# Altium integrated library Linear Technology PMIC-Switching Reg LTC1174-LTC3901.IntLib: 2647 symbols (part 72 of 310)
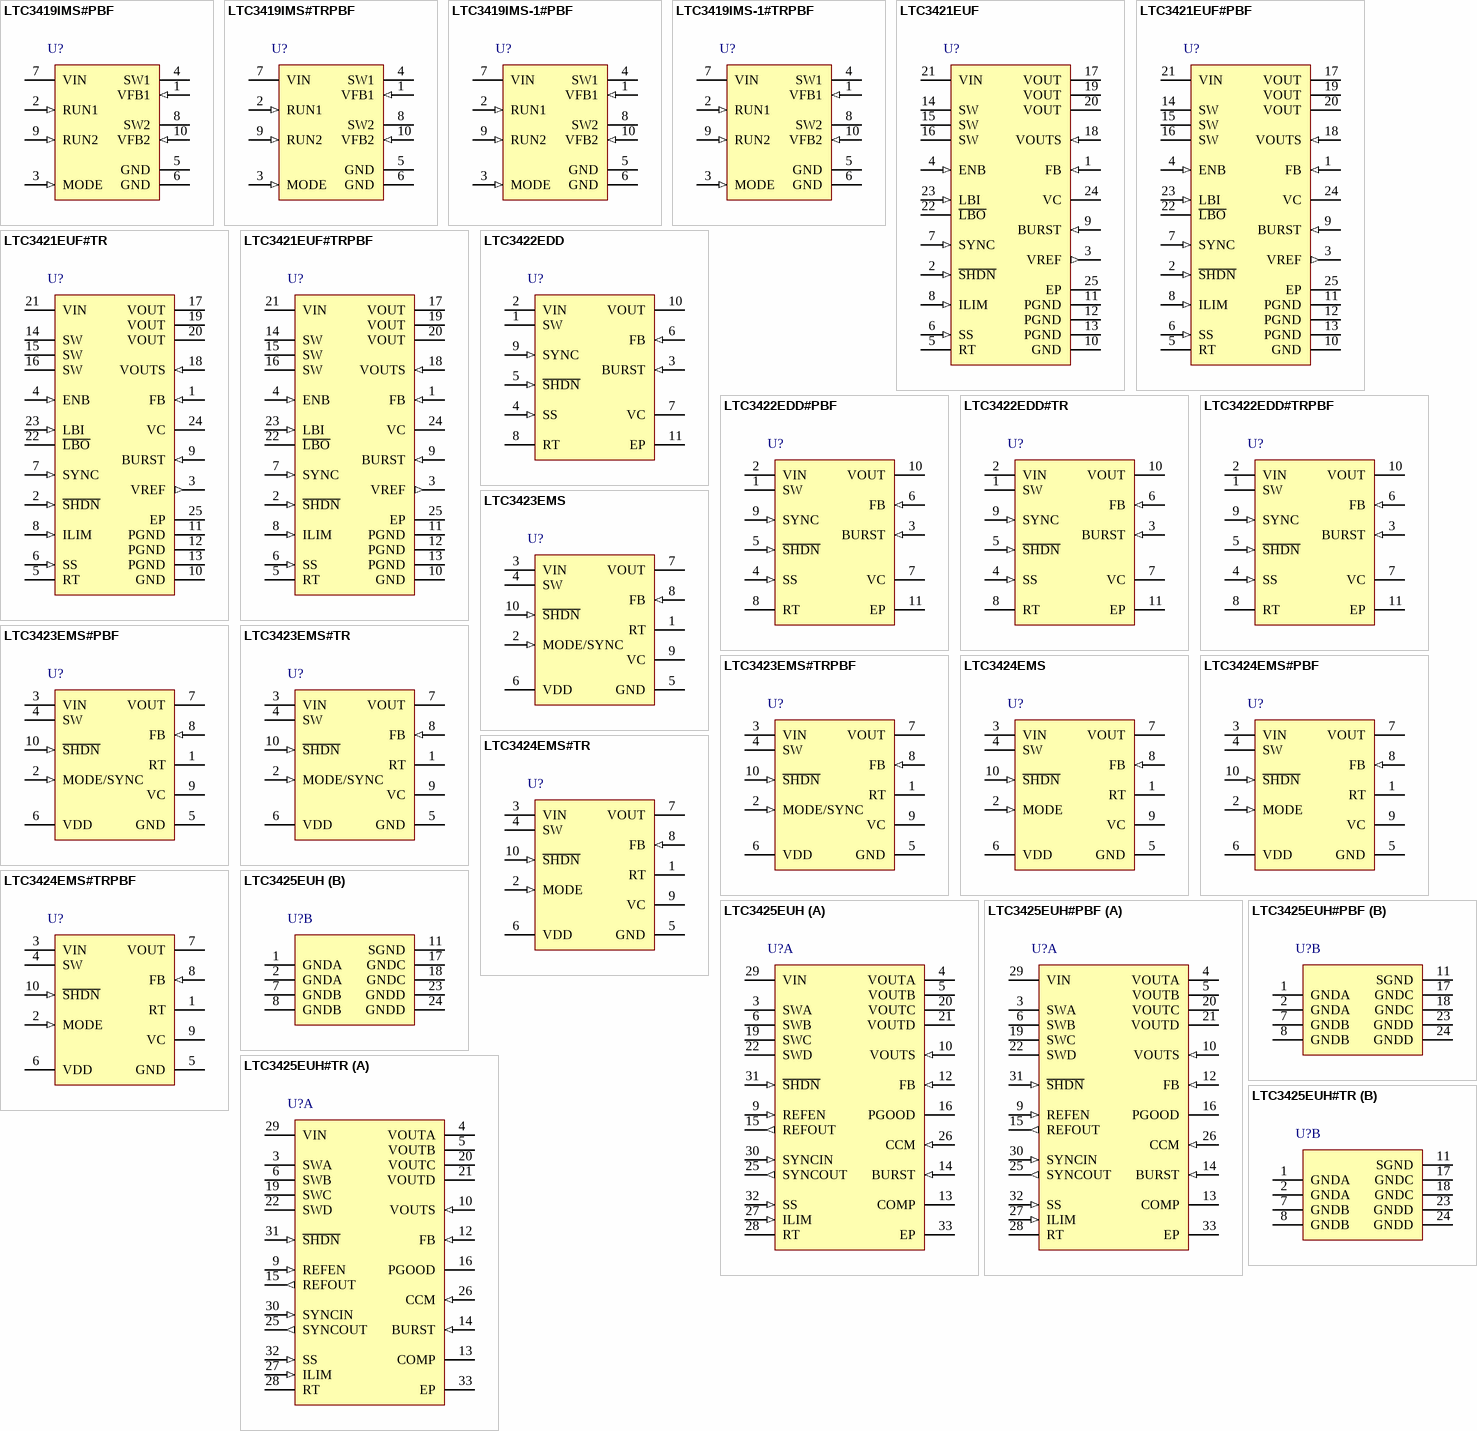
[diagram p157: symbols LTC3419IMS#PBF to LTC3425EUH#TR]

## LTC3421EUF#TRPBF
designator U?
3A, 3MHz Micropower Synchronous Boost Converter with Output Disconnect, 24-pin QFN (UF-24), -40 to 85 degC, Pb-Free, Tape and Reel; Manufacturer: Linear Technology; PartNumber: LTC3421EUF#TRPBF; Number of Outputs: 1; PackageReference: UF24; PackageDescription: 24-Pin Plastic QFN, Body 4 x 4 mm, Pitch 0.5 mm; Supplier 1: Digi-Key; Supplier Part Number 1: LTC3421EUF#TRPBF-ND; RoHS: TRUE; Code_JEDEC: MO-220
footprint LT-UF-24_N (QFN, 24-Leads, Body 4.1x4.1mm, Pitch 0.5mm, Thermal Pad 2.45x2.45mm, IPC Medium Density)
footprint LT-UF-24_L (QFN, 24-Leads, Body 4.1x4.1mm, Pitch 0.5mm, Thermal Pad 2.45x2.45mm, IPC High Density)
footprint LT-UF-24_M (QFN, 24-Leads, Body 4.1x4.1mm, Pitch 0.5mm, Thermal Pad 2.45x2.45mm, IPC Low Density)
pins: 1 FB (in) "Feedback Pin. Connect resistor divider tap here. The output voltage can be adjusted from 2.4V to 5.25V. The feedback reference voltage is typically 1.220V.", 2 ~{SHDN} (in) "Shutdown Pin. Less than 0.25V on this pin shuts down the IC. The IC is enabled when the S\H\D\N\ voltage is greater than 1V. Once VOUT is above 2.2V, hysteresis is applied to the pin (-500nA out of the pin) allowing it to (See Datasheet)", 3 VREF (out) "Buffered 1.22V Reference Output. This pin can source up to 100uA and sink up to 8uA. This pin must be decoupled with a 0.1uF capacitor for stability.", 4 ENB (in) "Reference Output (VREF) and Low-Battery Comparator Enable. When ENB = Low, the VREF output and low-battery comparator are disabled, which lowers the quiescent current by 5uA. When ENB = High, the VREF output and the (See Datasheet)", 5 RT "Connect a resistor to ground to program the oscillator frequency", 6 SS (in) "Soft-Start Pin. Connect a capacitor from this pin to ground to set the soft-start time", 7 SYNC (in) "Oscillator Synchronization Pin. A clock pulse width of 100ns to 2us is required to synchronize the internal oscillator. If not used SYNC should be grounded.", 8 ILIM (in) "Current Limit Adjust Pin. Connect a resistor from this pin to ground to set the peak current limit threshold for the N-channel MOSFET", 9 BURST (in) "Burst Mode Threshold Adjust Pin. A resistor/capacitor combination from this pin to ground programs the average load current at which automatic Burst Mode operation is entered", 10 GND (power) "Signal Ground Pin. Connect to ground plane near the RT resistor, error amp compensation components and feedback divider.", 11 PGND (power) "Source Terminal of Power Internal N-Channel MOSFET.", 12 PGND (power) "Source Terminal of Power Internal N-Channel MOSFET.", 13 PGND (power) "Source Terminal of Power Internal N-Channel MOSFET.", 14 SW "Switch Pin for Inductor Connection. For applications where VOUT > 4.3V, a Schottky diode from SW to VOUT or to a snubber circuit is required to maintain absolute maximum rating for SW. (see Application Circuits for 5V).", 15 SW "Switch Pin for Inductor Connection. For applications where VOUT > 4.3V, a Schottky diode from SW to VOUT or to a snubber circuit is required to maintain absolute maximum rating for SW. (see Application Circuits for 5V).", 16 SW "Switch Pin for Inductor Connection. For applications where VOUT > 4.3V, a Schottky diode from SW to VOUT or to a snubber circuit is required to maintain absolute maximum rating for SW. (see Application Circuits for 5V).", 17 VOUT (power) "The output of the synchronous rectifier and bootstrapped power source for the IC. A ceramic bypass capacitor is required to be very close to the VOUT and PGND pins of the IC.", 18 VOUTS (in) "VOUT Sense Pin. Connect VOUTS directly to an output filter capacitor. The top of the feedback divider network should also be tied to this point.", 19 VOUT (power) "The output of the synchronous rectifier and bootstrapped power source for the IC. A ceramic bypass capacitor is required to be very close to the VOUT and PGND pins of the IC.", 20 VOUT (power) "The output of the synchronous rectifier and bootstrapped power source for the IC. A ceramic bypass capacitor is required to be very close to the VOUT and PGND pins of the IC.", 21 VIN (power) "Input Supply Pin. Connect this pin to the input supply and decouple with at least a 4.7uF ceramic capacitor.", 22 ~{LBO} (oc) "Open-Drain Output. This pin pulls low when the LBI input is below 0.6V. The open-drain output can sink up to 20mA. During Burst Mode operation L\B\O\ is only active during the time the IC wakes up to service the output.", 23 LBI (in) "Low-Battery Comparator Input. Typical threshold voltage is 0.6V with 30mV hysteresis. This function is enabled when the ENB pin is high. The lowbattery comparator will operate off VIN or VOUT, whichever is greater.", 24 VC "Error Amp Output. A frequency compensation network is connected from this pin to ground to compensate the loop. See the section Compensating the Feedback Loop for guidelines.", 25 EP (power) "Ground. This pin must be soldered to the PCB and is typically connected through the power GND plane."

## LTC3422EDD
designator U?
1.5 A, 3 MHz Synchronous Step-Up DC/DC Converter with Output Disconnect, 10-pin SON (DD-10), -40 to 85 degC; Manufacturer: Linear Technology; PartNumber: LTC3422EDD; Number of Outputs: 1; PackageReference: DD-10; PackageDescription: 10-Pin Plastic DFN, Body 3 x 3 mm, Pitch 0.5 mm; RoHS: FALSE; Code_JEDEC: MO-229
footprint LT-DD-10_V (SON, 10-Leads, Body 3x3mm, Pitch 0.5mm, Thermal Pad 2.38x1.65mm)
pins: 1 SW "Switch Pin for the Inductor Connection. Minimize trace length between SW and inductor. For discontinuous inductor current, a controlled impedance is internally connected from SW to VIN to eliminate high frequency ringing, (See Datasheet)", 2 VIN (power) "Input Supply Voltage. Connect VIN to the input supply and decouple with a 4.7uF or larger ceramic capacitor as close to VIN as possible.", 3 BURST (in) "Burst Mode Threshold Adjust. Automatic Burst Mode Operation: A resistor/capacitor combination from BURST to ground programs the average load current at which automatic Burst Mode operation is exited", 4 SS (in) "Soft-Start. Connect a capacitor from SS to ground to set the soft-start time", 5 ~{SHDN} (in) "Shutdown Input. Less than 250mV on S\H\D\N\ shuts down the LTC3422. Placing 1V or more on S\H\D\N\ enables the LTC3422. Once VOUT exceeds 2.2V, hysteresis is applied to this pin (500nA exits the pin) allowing it to operate (See Datasheet)", 6 FB (in) "Feedback Input to Error Amplifier. Connect the VOUT to ground resistor divider tap here. The output voltage can be adjusted from 2.25V to 5.25V", 7 VC "Error Amp Output. A frequency compensation network is connected from VC to ground to compensate the loop. See the section “Closing the Feedback Loop?for guidelines.", 8 RT "Frequency Adjust Input. Connect a resistor to ground to program the oscillator frequency", 9 SYNC (in) "Oscillator Synchronization Input. A clock pulse width of 100ns to 2us is required to synchronize the internal oscillator. If not used, SYNC should be grounded.", 10 VOUT (power) "Output of the synchronous rectifier and bootstrapped power source for the LTC3422. A ceramic capacitor of at least 10uF is required and should be located as close to VOUT and the power ground plane as possible.", 11 EP (power) "Signal and Power Ground for the LTC3422. This pin MUST be soldered to the PCB ground plane for electrical contact and rated thermal performance."

## LTC3422EDD#PBF
designator U?
1.5 A, 3 MHz Synchronous Step-Up DC/DC Converter with Output Disconnect, 10-pin SON (DD-10), -40 to 85 degC, Pb-Free; Manufacturer: Linear Technology; PartNumber: LTC3422EDD#PBF; Number of Outputs: 1; PackageReference: DD-10; PackageDescription: 10-Pin Plastic DFN, Body 3 x 3 mm, Pitch 0.5 mm; Supplier 1: Digi-Key; Supplier Part Number 1: LTC3422EDD#PBF-ND; RoHS: TRUE; Code_JEDEC: MO-229
footprint LT-DD-10_V (SON, 10-Leads, Body 3x3mm, Pitch 0.5mm, Thermal Pad 2.38x1.65mm)
pins: 1 SW "Switch Pin for the Inductor Connection. Minimize trace length between SW and inductor. For discontinuous inductor current, a controlled impedance is internally connected from SW to VIN to eliminate high frequency ringing, (See Datasheet)", 2 VIN (power) "Input Supply Voltage. Connect VIN to the input supply and decouple with a 4.7uF or larger ceramic capacitor as close to VIN as possible.", 3 BURST (in) "Burst Mode Threshold Adjust. Automatic Burst Mode Operation: A resistor/capacitor combination from BURST to ground programs the average load current at which automatic Burst Mode operation is exited", 4 SS (in) "Soft-Start. Connect a capacitor from SS to ground to set the soft-start time", 5 ~{SHDN} (in) "Shutdown Input. Less than 250mV on S\H\D\N\ shuts down the LTC3422. Placing 1V or more on S\H\D\N\ enables the LTC3422. Once VOUT exceeds 2.2V, hysteresis is applied to this pin (500nA exits the pin) allowing it to operate (See Datasheet)", 6 FB (in) "Feedback Input to Error Amplifier. Connect the VOUT to ground resistor divider tap here. The output voltage can be adjusted from 2.25V to 5.25V", 7 VC "Error Amp Output. A frequency compensation network is connected from VC to ground to compensate the loop. See the section “Closing the Feedback Loop?for guidelines.", 8 RT "Frequency Adjust Input. Connect a resistor to ground to program the oscillator frequency", 9 SYNC (in) "Oscillator Synchronization Input. A clock pulse width of 100ns to 2us is required to synchronize the internal oscillator. If not used, SYNC should be grounded.", 10 VOUT (power) "Output of the synchronous rectifier and bootstrapped power source for the LTC3422. A ceramic capacitor of at least 10uF is required and should be located as close to VOUT and the power ground plane as possible.", 11 EP (power) "Signal and Power Ground for the LTC3422. This pin MUST be soldered to the PCB ground plane for electrical contact and rated thermal performance."

## LTC3422EDD#TR
designator U?
1.5 A, 3 MHz Synchronous Step-Up DC/DC Converter with Output Disconnect, 10-pin SON (DD-10), -40 to 85 degC, Tape and Reel; Manufacturer: Linear Technology; PartNumber: LTC3422EDD#TR; Number of Outputs: 1; PackageReference: DD-10; PackageDescription: 10-Pin Plastic DFN, Body 3 x 3 mm, Pitch 0.5 mm; RoHS: FALSE; Code_JEDEC: MO-229
footprint LT-DD-10_V (SON, 10-Leads, Body 3x3mm, Pitch 0.5mm, Thermal Pad 2.38x1.65mm)
pins: 1 SW "Switch Pin for the Inductor Connection. Minimize trace length between SW and inductor. For discontinuous inductor current, a controlled impedance is internally connected from SW to VIN to eliminate high frequency ringing, (See Datasheet)", 2 VIN (power) "Input Supply Voltage. Connect VIN to the input supply and decouple with a 4.7uF or larger ceramic capacitor as close to VIN as possible.", 3 BURST (in) "Burst Mode Threshold Adjust. Automatic Burst Mode Operation: A resistor/capacitor combination from BURST to ground programs the average load current at which automatic Burst Mode operation is exited", 4 SS (in) "Soft-Start. Connect a capacitor from SS to ground to set the soft-start time", 5 ~{SHDN} (in) "Shutdown Input. Less than 250mV on S\H\D\N\ shuts down the LTC3422. Placing 1V or more on S\H\D\N\ enables the LTC3422. Once VOUT exceeds 2.2V, hysteresis is applied to this pin (500nA exits the pin) allowing it to operate (See Datasheet)", 6 FB (in) "Feedback Input to Error Amplifier. Connect the VOUT to ground resistor divider tap here. The output voltage can be adjusted from 2.25V to 5.25V", 7 VC "Error Amp Output. A frequency compensation network is connected from VC to ground to compensate the loop. See the section “Closing the Feedback Loop?for guidelines.", 8 RT "Frequency Adjust Input. Connect a resistor to ground to program the oscillator frequency", 9 SYNC (in) "Oscillator Synchronization Input. A clock pulse width of 100ns to 2us is required to synchronize the internal oscillator. If not used, SYNC should be grounded.", 10 VOUT (power) "Output of the synchronous rectifier and bootstrapped power source for the LTC3422. A ceramic capacitor of at least 10uF is required and should be located as close to VOUT and the power ground plane as possible.", 11 EP (power) "Signal and Power Ground for the LTC3422. This pin MUST be soldered to the PCB ground plane for electrical contact and rated thermal performance."

## LTC3422EDD#TRPBF
designator U?
1.5 A, 3 MHz Synchronous Step-Up DC/DC Converter with Output Disconnect, 10-pin SON (DD-10), -40 to 85 degC, Pb-Free, Tape and Reel; Manufacturer: Linear Technology; PartNumber: LTC3422EDD#TRPBF; Number of Outputs: 1; PackageReference: DD-10; PackageDescription: 10-Pin Plastic DFN, Body 3 x 3 mm, Pitch 0.5 mm; Supplier 1: Digi-Key; Supplier Part Number 1: LTC3422EDD#TRPBF-ND; RoHS: TRUE; Code_JEDEC: MO-229
footprint LT-DD-10_V (SON, 10-Leads, Body 3x3mm, Pitch 0.5mm, Thermal Pad 2.38x1.65mm)
pins: 1 SW "Switch Pin for the Inductor Connection. Minimize trace length between SW and inductor. For discontinuous inductor current, a controlled impedance is internally connected from SW to VIN to eliminate high frequency ringing, (See Datasheet)", 2 VIN (power) "Input Supply Voltage. Connect VIN to the input supply and decouple with a 4.7uF or larger ceramic capacitor as close to VIN as possible.", 3 BURST (in) "Burst Mode Threshold Adjust. Automatic Burst Mode Operation: A resistor/capacitor combination from BURST to ground programs the average load current at which automatic Burst Mode operation is exited", 4 SS (in) "Soft-Start. Connect a capacitor from SS to ground to set the soft-start time", 5 ~{SHDN} (in) "Shutdown Input. Less than 250mV on S\H\D\N\ shuts down the LTC3422. Placing 1V or more on S\H\D\N\ enables the LTC3422. Once VOUT exceeds 2.2V, hysteresis is applied to this pin (500nA exits the pin) allowing it to operate (See Datasheet)", 6 FB (in) "Feedback Input to Error Amplifier. Connect the VOUT to ground resistor divider tap here. The output voltage can be adjusted from 2.25V to 5.25V", 7 VC "Error Amp Output. A frequency compensation network is connected from VC to ground to compensate the loop. See the section “Closing the Feedback Loop?for guidelines.", 8 RT "Frequency Adjust Input. Connect a resistor to ground to program the oscillator frequency", 9 SYNC (in) "Oscillator Synchronization Input. A clock pulse width of 100ns to 2us is required to synchronize the internal oscillator. If not used, SYNC should be grounded.", 10 VOUT (power) "Output of the synchronous rectifier and bootstrapped power source for the LTC3422. A ceramic capacitor of at least 10uF is required and should be located as close to VOUT and the power ground plane as possible.", 11 EP (power) "Signal and Power Ground for the LTC3422. This pin MUST be soldered to the PCB ground plane for electrical contact and rated thermal performance."

## LTC3423EMS
designator U?
Low Output Voltage, 3 MHz Micropower Synchronous Boost Converter, 10-pin SOP (MS-10), -40 to 85 degC; Manufacturer: Linear Technology; PartNumber: LTC3423EMS; Number of Outputs: 1; PackageReference: MS-10; PackageDescription: 10-Pin Plastic MSOP, Body 3 x 3 mm, Pitch 0.5 mm; Supplier 1: Digi-Key; Supplier Part Number 1: LTC3423EMS-ND; RoHS: FALSE
footprint LT-MS-10_N (SOP, 10-Leads, Body 3.1x3.1mm, Pitch 0.5mm, IPC Medium Density)
footprint LT-MS-10_L (SOP, 10-Leads, Body 3.1x3.1mm, Pitch 0.5mm, IPC High Density)
footprint LT-MS-10_M (SOP, 10-Leads, Body 3.1x3.1mm, Pitch 0.5mm, IPC Low Density)
pins: 1 RT "Timing Resistor to Program the Oscillator Frequency.", 2 MODE/SYNC (in) "Burst Mode Select and Oscillator Synchronization.", 3 VIN (power) "Voltage Sense for Internal Circuitry.", 4 SW "Switch Pin. Connect inductor and optional Schottky diode here. Minimize trace length to keep EMI down.", 5 GND (power) "Signal and Power Ground for the IC.", 6 VDD (power) "Power Source for the IC. Typically derived from a higher voltage power converter. Requires an input of 2.7V to 5.5V. A 2.2uF ceramic bypass capacitor is recommended as close to the pins as possible.", 7 VOUT (power) "Output of the Synchronous Rectifier.", 8 FB (in) "Feedback Pin. Connect resistor divider tap here. The output voltage can be adjusted from 1.5V to 5.5V. The feedback reference voltage is typically 1.25V.", 9 VC "Error Amp Output. A frequency compensation network is connected to this pin to compensate the loop. See the section “Compensating the Feedback Loop?for guidelines.", 10 ~{SHDN} (in) "Shutdown. Grounding this pin shuts down the IC. Tie to >1V to enable (VDD or digital gate output). During shutdown the output voltage will hold up to VIN minus a diode drop due to the body diode of the PMOS synchronous (See Datasheet)"

## LTC3423EMS#PBF
designator U?
Low Output Voltage, 3 MHz Micropower Synchronous Boost Converter, 10-pin SOP (MS-10), -40 to 85 degC, Pb-Free; Manufacturer: Linear Technology; PartNumber: LTC3423EMS#PBF; Number of Outputs: 1; PackageReference: MS-10; PackageDescription: 10-Pin Plastic MSOP, Body 3 x 3 mm, Pitch 0.5 mm; Supplier 1: Digi-Key; Supplier Part Number 1: LTC3423EMS#PBF-ND; RoHS: TRUE
footprint LT-MS-10_N (SOP, 10-Leads, Body 3.1x3.1mm, Pitch 0.5mm, IPC Medium Density)
footprint LT-MS-10_L (SOP, 10-Leads, Body 3.1x3.1mm, Pitch 0.5mm, IPC High Density)
footprint LT-MS-10_M (SOP, 10-Leads, Body 3.1x3.1mm, Pitch 0.5mm, IPC Low Density)
pins: 1 RT "Timing Resistor to Program the Oscillator Frequency.", 2 MODE/SYNC (in) "Burst Mode Select and Oscillator Synchronization.", 3 VIN (power) "Voltage Sense for Internal Circuitry.", 4 SW "Switch Pin. Connect inductor and optional Schottky diode here. Minimize trace length to keep EMI down.", 5 GND (power) "Signal and Power Ground for the IC.", 6 VDD (power) "Power Source for the IC. Typically derived from a higher voltage power converter. Requires an input of 2.7V to 5.5V. A 2.2uF ceramic bypass capacitor is recommended as close to the pins as possible.", 7 VOUT (power) "Output of the Synchronous Rectifier.", 8 FB (in) "Feedback Pin. Connect resistor divider tap here. The output voltage can be adjusted from 1.5V to 5.5V. The feedback reference voltage is typically 1.25V.", 9 VC "Error Amp Output. A frequency compensation network is connected to this pin to compensate the loop. See the section “Compensating the Feedback Loop?for guidelines.", 10 ~{SHDN} (in) "Shutdown. Grounding this pin shuts down the IC. Tie to >1V to enable (VDD or digital gate output). During shutdown the output voltage will hold up to VIN minus a diode drop due to the body diode of the PMOS synchronous (See Datasheet)"

## LTC3423EMS#TR
designator U?
Low Output Voltage, 3 MHz Micropower Synchronous Boost Converter, 10-pin SOP (MS-10), -40 to 85 degC, Tape and Reel; Manufacturer: Linear Technology; PartNumber: LTC3423EMS#TR; Number of Outputs: 1; PackageReference: MS-10; PackageDescription: 10-Pin Plastic MSOP, Body 3 x 3 mm, Pitch 0.5 mm; Supplier 1: Digi-Key; Supplier Part Number 1: LTC3423EMSTR-ND; RoHS: FALSE
footprint LT-MS-10_N (SOP, 10-Leads, Body 3.1x3.1mm, Pitch 0.5mm, IPC Medium Density)
footprint LT-MS-10_L (SOP, 10-Leads, Body 3.1x3.1mm, Pitch 0.5mm, IPC High Density)
footprint LT-MS-10_M (SOP, 10-Leads, Body 3.1x3.1mm, Pitch 0.5mm, IPC Low Density)
pins: 1 RT "Timing Resistor to Program the Oscillator Frequency.", 2 MODE/SYNC (in) "Burst Mode Select and Oscillator Synchronization.", 3 VIN (power) "Voltage Sense for Internal Circuitry.", 4 SW "Switch Pin. Connect inductor and optional Schottky diode here. Minimize trace length to keep EMI down.", 5 GND (power) "Signal and Power Ground for the IC.", 6 VDD (power) "Power Source for the IC. Typically derived from a higher voltage power converter. Requires an input of 2.7V to 5.5V. A 2.2uF ceramic bypass capacitor is recommended as close to the pins as possible.", 7 VOUT (power) "Output of the Synchronous Rectifier.", 8 FB (in) "Feedback Pin. Connect resistor divider tap here. The output voltage can be adjusted from 1.5V to 5.5V. The feedback reference voltage is typically 1.25V.", 9 VC "Error Amp Output. A frequency compensation network is connected to this pin to compensate the loop. See the section “Compensating the Feedback Loop?for guidelines.", 10 ~{SHDN} (in) "Shutdown. Grounding this pin shuts down the IC. Tie to >1V to enable (VDD or digital gate output). During shutdown the output voltage will hold up to VIN minus a diode drop due to the body diode of the PMOS synchronous (See Datasheet)"

## LTC3423EMS#TRPBF
designator U?
Low Output Voltage, 3 MHz Micropower Synchronous Boost Converter, 10-pin SOP (MS-10), -40 to 85 degC, Pb-Free, Tape and Reel; Manufacturer: Linear Technology; PartNumber: LTC3423EMS#TRPBF; Number of Outputs: 1; PackageReference: MS-10; PackageDescription: 10-Pin Plastic MSOP, Body 3 x 3 mm, Pitch 0.5 mm; Supplier 1: Digi-Key; Supplier Part Number 1: LTC3423EMS#TRPBF-ND; RoHS: TRUE
footprint LT-MS-10_N (SOP, 10-Leads, Body 3.1x3.1mm, Pitch 0.5mm, IPC Medium Density)
footprint LT-MS-10_L (SOP, 10-Leads, Body 3.1x3.1mm, Pitch 0.5mm, IPC High Density)
footprint LT-MS-10_M (SOP, 10-Leads, Body 3.1x3.1mm, Pitch 0.5mm, IPC Low Density)
pins: 1 RT "Timing Resistor to Program the Oscillator Frequency.", 2 MODE/SYNC (in) "Burst Mode Select and Oscillator Synchronization.", 3 VIN (power) "Voltage Sense for Internal Circuitry.", 4 SW "Switch Pin. Connect inductor and optional Schottky diode here. Minimize trace length to keep EMI down.", 5 GND (power) "Signal and Power Ground for the IC.", 6 VDD (power) "Power Source for the IC. Typically derived from a higher voltage power converter. Requires an input of 2.7V to 5.5V. A 2.2uF ceramic bypass capacitor is recommended as close to the pins as possible.", 7 VOUT (power) "Output of the Synchronous Rectifier.", 8 FB (in) "Feedback Pin. Connect resistor divider tap here. The output voltage can be adjusted from 1.5V to 5.5V. The feedback reference voltage is typically 1.25V.", 9 VC "Error Amp Output. A frequency compensation network is connected to this pin to compensate the loop. See the section “Compensating the Feedback Loop?for guidelines.", 10 ~{SHDN} (in) "Shutdown. Grounding this pin shuts down the IC. Tie to >1V to enable (VDD or digital gate output). During shutdown the output voltage will hold up to VIN minus a diode drop due to the body diode of the PMOS synchronous (See Datasheet)"

## LTC3424EMS
designator U?
Low Output Voltage, 3 MHz Micropower Synchronous Boost Converter, 10-pin SOP (MS-10), -40 to 85 degC; Manufacturer: Linear Technology; PartNumber: LTC3424EMS; Number of Outputs: 1; PackageReference: MS-10; PackageDescription: 10-Pin Plastic MSOP, Body 3 x 3 mm, Pitch 0.5 mm; Supplier 1: Digi-Key; Supplier Part Number 1: LTC3424EMS-ND; RoHS: FALSE
footprint LT-MS-10_N (SOP, 10-Leads, Body 3.1x3.1mm, Pitch 0.5mm, IPC Medium Density)
footprint LT-MS-10_L (SOP, 10-Leads, Body 3.1x3.1mm, Pitch 0.5mm, IPC High Density)
footprint LT-MS-10_M (SOP, 10-Leads, Body 3.1x3.1mm, Pitch 0.5mm, IPC Low Density)
pins: 1 RT "Timing Resistor to Program the Oscillator Frequency.", 2 MODE (in) "Burst Mode Select and Oscillator Synchronization.", 3 VIN (power) "Voltage Sense for Internal Circuitry.", 4 SW "Switch Pin. Connect inductor and optional Schottky diode here. Minimize trace length to keep EMI down.", 5 GND (power) "Signal and Power Ground for the IC.", 6 VDD (power) "Power Source for the IC. Typically derived from a higher voltage power converter. Requires an input of 2.7V to 5.5V. A 2.2uF ceramic bypass capacitor is recommended as close to the pins as possible.", 7 VOUT (power) "Output of the Synchronous Rectifier.", 8 FB (in) "Feedback Pin. Connect resistor divider tap here. The output voltage can be adjusted from 1.5V to 5.5V. The feedback reference voltage is typically 1.25V.", 9 VC "Error Amp Output. A frequency compensation network is connected to this pin to compensate the loop. See the section “Compensating the Feedback Loop?for guidelines.", 10 ~{SHDN} (in) "Shutdown. Grounding this pin shuts down the IC. Tie to >1V to enable (VDD or digital gate output). During shutdown the output voltage will hold up to VIN minus a diode drop due to the body diode of the PMOS synchronous (See Datasheet)"

## LTC3424EMS#PBF
designator U?
Low Output Voltage, 3 MHz Micropower Synchronous Boost Converter, 10-pin SOP (MS-10), -40 to 85 degC, Pb-Free; Manufacturer: Linear Technology; PartNumber: LTC3424EMS#PBF; Number of Outputs: 1; PackageReference: MS-10; PackageDescription: 10-Pin Plastic MSOP, Body 3 x 3 mm, Pitch 0.5 mm; Supplier 1: Digi-Key; Supplier Part Number 1: LTC3424EMS#PBF-ND; RoHS: TRUE
footprint LT-MS-10_N (SOP, 10-Leads, Body 3.1x3.1mm, Pitch 0.5mm, IPC Medium Density)
footprint LT-MS-10_L (SOP, 10-Leads, Body 3.1x3.1mm, Pitch 0.5mm, IPC High Density)
footprint LT-MS-10_M (SOP, 10-Leads, Body 3.1x3.1mm, Pitch 0.5mm, IPC Low Density)
pins: 1 RT "Timing Resistor to Program the Oscillator Frequency.", 2 MODE (in) "Burst Mode Select and Oscillator Synchronization.", 3 VIN (power) "Voltage Sense for Internal Circuitry.", 4 SW "Switch Pin. Connect inductor and optional Schottky diode here. Minimize trace length to keep EMI down.", 5 GND (power) "Signal and Power Ground for the IC.", 6 VDD (power) "Power Source for the IC. Typically derived from a higher voltage power converter. Requires an input of 2.7V to 5.5V. A 2.2uF ceramic bypass capacitor is recommended as close to the pins as possible.", 7 VOUT (power) "Output of the Synchronous Rectifier.", 8 FB (in) "Feedback Pin. Connect resistor divider tap here. The output voltage can be adjusted from 1.5V to 5.5V. The feedback reference voltage is typically 1.25V.", 9 VC "Error Amp Output. A frequency compensation network is connected to this pin to compensate the loop. See the section “Compensating the Feedback Loop?for guidelines.", 10 ~{SHDN} (in) "Shutdown. Grounding this pin shuts down the IC. Tie to >1V to enable (VDD or digital gate output). During shutdown the output voltage will hold up to VIN minus a diode drop due to the body diode of the PMOS synchronous (See Datasheet)"

## LTC3424EMS#TR
designator U?
Low Output Voltage, 3 MHz Micropower Synchronous Boost Converter, 10-pin SOP (MS-10), -40 to 85 degC, Tape and Reel; Manufacturer: Linear Technology; PartNumber: LTC3424EMS#TR; Number of Outputs: 1; PackageReference: MS-10; PackageDescription: 10-Pin Plastic MSOP, Body 3 x 3 mm, Pitch 0.5 mm; Supplier 1: Digi-Key; Supplier Part Number 1: LTC3424EMSTR-ND; RoHS: FALSE
footprint LT-MS-10_N (SOP, 10-Leads, Body 3.1x3.1mm, Pitch 0.5mm, IPC Medium Density)
footprint LT-MS-10_L (SOP, 10-Leads, Body 3.1x3.1mm, Pitch 0.5mm, IPC High Density)
footprint LT-MS-10_M (SOP, 10-Leads, Body 3.1x3.1mm, Pitch 0.5mm, IPC Low Density)
pins: 1 RT "Timing Resistor to Program the Oscillator Frequency.", 2 MODE (in) "Burst Mode Select and Oscillator Synchronization.", 3 VIN (power) "Voltage Sense for Internal Circuitry.", 4 SW "Switch Pin. Connect inductor and optional Schottky diode here. Minimize trace length to keep EMI down.", 5 GND (power) "Signal and Power Ground for the IC.", 6 VDD (power) "Power Source for the IC. Typically derived from a higher voltage power converter. Requires an input of 2.7V to 5.5V. A 2.2uF ceramic bypass capacitor is recommended as close to the pins as possible.", 7 VOUT (power) "Output of the Synchronous Rectifier.", 8 FB (in) "Feedback Pin. Connect resistor divider tap here. The output voltage can be adjusted from 1.5V to 5.5V. The feedback reference voltage is typically 1.25V.", 9 VC "Error Amp Output. A frequency compensation network is connected to this pin to compensate the loop. See the section “Compensating the Feedback Loop?for guidelines.", 10 ~{SHDN} (in) "Shutdown. Grounding this pin shuts down the IC. Tie to >1V to enable (VDD or digital gate output). During shutdown the output voltage will hold up to VIN minus a diode drop due to the body diode of the PMOS synchronous (See Datasheet)"

## LTC3424EMS#TRPBF
designator U?
Low Output Voltage, 3 MHz Micropower Synchronous Boost Converter, 10-pin SOP (MS-10), -40 to 85 degC, Pb-Free, Tape and Reel; Manufacturer: Linear Technology; PartNumber: LTC3424EMS#TRPBF; Number of Outputs: 1; PackageReference: MS-10; PackageDescription: 10-Pin Plastic MSOP, Body 3 x 3 mm, Pitch 0.5 mm; Supplier 1: Digi-Key; Supplier Part Number 1: LTC3424EMS#TRPBF-ND; RoHS: TRUE
footprint LT-MS-10_N (SOP, 10-Leads, Body 3.1x3.1mm, Pitch 0.5mm, IPC Medium Density)
footprint LT-MS-10_L (SOP, 10-Leads, Body 3.1x3.1mm, Pitch 0.5mm, IPC High Density)
footprint LT-MS-10_M (SOP, 10-Leads, Body 3.1x3.1mm, Pitch 0.5mm, IPC Low Density)
pins: 1 RT "Timing Resistor to Program the Oscillator Frequency.", 2 MODE (in) "Burst Mode Select and Oscillator Synchronization.", 3 VIN (power) "Voltage Sense for Internal Circuitry.", 4 SW "Switch Pin. Connect inductor and optional Schottky diode here. Minimize trace length to keep EMI down.", 5 GND (power) "Signal and Power Ground for the IC.", 6 VDD (power) "Power Source for the IC. Typically derived from a higher voltage power converter. Requires an input of 2.7V to 5.5V. A 2.2uF ceramic bypass capacitor is recommended as close to the pins as possible.", 7 VOUT (power) "Output of the Synchronous Rectifier.", 8 FB (in) "Feedback Pin. Connect resistor divider tap here. The output voltage can be adjusted from 1.5V to 5.5V. The feedback reference voltage is typically 1.25V.", 9 VC "Error Amp Output. A frequency compensation network is connected to this pin to compensate the loop. See the section “Compensating the Feedback Loop?for guidelines.", 10 ~{SHDN} (in) "Shutdown. Grounding this pin shuts down the IC. Tie to >1V to enable (VDD or digital gate output). During shutdown the output voltage will hold up to VIN minus a diode drop due to the body diode of the PMOS synchronous (See Datasheet)"

## LTC3425EUH
designator U?
5 A, 8 MHz, 4-Phase Synchronous Step-Up DC/DC Converter, 32-pin QFN (UH-32), -40 to 85 degC; Manufacturer: Linear Technology; PartNumber: LTC3425EUH; Number of Outputs: 1; PackageReference: UH-32; PackageDescription: 32-Pin Plastic QFN, Body 5 x 5 mm, Pitch 0.5 mm; Supplier 1: Digi-Key; Supplier Part Number 1: LTC3425EUH-ND; RoHS: FALSE; Code_JEDEC: MO-220
footprint LT-UH-32_N (QFN, 32-Leads, Body 5.1x5.1mm, Pitch 0.5mm, Thermal Pad 3.45X3.45mm, IPC Medium Density)
footprint LT-UH-32_L (QFN, 32-Leads, Body 5.1x5.1mm, Pitch 0.5mm, Thermal Pad 3.45X3.45mm, IPC High Density)
footprint LT-UH-32_M (QFN, 32-Leads, Body 5.1x5.1mm, Pitch 0.5mm, Thermal Pad 3.45X3.45mm, IPC Low Density)
part A pins: 3 SWA "Switch Pins. Connect inductors here. Minimize trace length to keep EMI to a minimum. For discontinuous inductor current, a controlled impedance is internally connected from SW to VIN to minimize EMI. For applications where (See Datasheet)", 4 VOUTA (power) "Output of the Four Synchronous Rectifiers. Connect output filter capacitors to these pins. Connect one low ESR ceramic capacitor directly from each pin to the ground plane.", 5 VOUTB (power) "Output of the Four Synchronous Rectifiers. Connect output filter capacitors to these pins. Connect one low ESR ceramic capacitor directly from each pin to the ground plane.", 6 SWB "Switch Pins. Connect inductors here. Minimize trace length to keep EMI to a minimum. For discontinuous inductor current, a controlled impedance is internally connected from SW to VIN to minimize EMI. For applications where (See Datasheet)", 9 REFEN (in) "Pull this pin above 1.4V to enable the REF output. Grounding this pin turns the REF output off to reduce quiescent current.", 10 VOUTS (in) "VOUT Sense Pin. Connect VOUTS directly to an output filter capacitor. The top of the feedback divider network should also be tied to this point.", 12 FB (in) "Feedback Pin. Connect FB to a resistor divider, keeping the trace as short as possible. The output voltage can be adjusted according to the following formula: VOUT = 1.22 x (R1+R2)/R1,where R1 is connected from FB(See Datasheet)", 13 COMP "Error Amp Output. A frequency compensation network is connected from this pin to ground to compensate the loop. See the section Closing the Feedback Loop for guidelines.", 14 BURST (in) "Burst Mode Threshold Adjust Pin. A resistor/capacitor combination from this pin to ground programs the average load current at which automatic Burst Mode operation is entered. For manual control of Burst Mode operation, (See Datasheet)", 15 REFOUT (out) "Buffered 1.22V Reference Output. This pin can source up to 100uA and sink up to 10uA (only active when REFEN is pulled high). This pin must be decoupled with a 0.1uF capacitor for stability.", 16 PGOOD (oc) "Open-Drain Output of the Power Good Comparator. This pin will go low when the output voltage drops 11% below its regulated value. Maximum sink current should be limited to 10mA.", 19 SWC "Switch Pins. Connect inductors here. Minimize trace length to keep EMI to a minimum. For discontinuous inductor current, a controlled impedance is internally connected from SW to VIN to minimize EMI. For applications where (See Datasheet)", 20 VOUTC (power) "Output of the Four Synchronous Rectifiers. Connect output filter capacitors to these pins. Connect one low ESR ceramic capacitor directly from each pin to the ground plane.", 21 VOUTD (power) "Output of the Four Synchronous Rectifiers. Connect output filter capacitors to these pins. Connect one low ESR ceramic capacitor directly from each pin to the ground plane.", 22 SWD "Switch Pins. Connect inductors here. Minimize trace length to keep EMI to a minimum. For discontinuous inductor current, a controlled impedance is internally connected from SW to VIN to minimize EMI. For applications where (See Datasheet)", 25 SYNCOUT (out) "Sync Output Pin. A clock is provided at the oscillator frequency, but phase-shifted 180 degrees to allow for synchronizing two devices for an 8-phase converter.", 26 CCM (in) "This pin is used to select forced continuous conduction mode. Normally this pin is grounded to allow CCM or DCM operation. To force continuous conduction mode, tie this pin to VOUT. In this mode, a reverse current of up to (See Datasheet)", 27 ILIM (in) "Current Limit Adjust Pin. Connect a resistor from ILIM to SGND to set the peak current limit threshold for the N-channel MOSFETs, according to the formula (note that this is the peak current in each inductor): (See Datasheet)", 28 RT "Connect a resistor from RT to SGND (or SGND plane) to program the oscillator frequency, according to the formula:fOSC=60/RT, fSWITCH=fOSC/4=15/RT,where fOSC is in MHz and RT is in kohm.", 29 VIN (power) "Input Supply Pin. Connect this to the input supply and decouple with 1uF minimum low ESR ceramic capacitor.", 30 SYNCIN (in) "Oscillator Synchronization Pin. A clock pulse width of 100ns minimum is required to synchronize the internal oscillator. If not used, SYNCIN should be grounded. The typical logic threshold for this input is:VOUT/2,The SYNCIN (See Datasheet)", 31 ~{SHDN} (in) "Shutdown Pin. Grounding S\H\D\N\ (or pulling it below 0.25V) shuts down the IC. Pull pin up to >=1V to enable. Once enabled, the pin only needs to be >=0.65V.", 32 SS (in) "Soft-Start pin. Connect a capacitor from this pin to ground to set the soft-start time, according to the formula: t(ms) = CSS (uF) x 320,The nominal soft-start charging current is 2.5uA. The active range of SS is from 0.8(See Datasheet)", 33 EP (power) "Additional Power Ground for the IC. Connect directly to the power ground plane."
part B pins: 1 GNDA (power) "Power Ground for the IC and the Four Internal N-channel MOSFETs. Connect directly to the power ground plane.", 2 GNDA (power) "Power Ground for the IC and the Four Internal N-channel MOSFETs. Connect directly to the power ground plane.", 7 GNDB (power) "Power Ground for the IC and the Four Internal N-channel MOSFETs. Connect directly to the power ground plane.", 8 GNDB (power) "Power Ground for the IC and the Four Internal N-channel MOSFETs. Connect directly to the power ground plane.", 11 SGND (power) "Signal Ground Pin. Connect to ground plane, near the feedback divider resistor.", 17 GNDC (power) "Power Ground for the IC and the Four Internal N-channel MOSFETs. Connect directly to the power ground plane.", 18 GNDC (power) "Power Ground for the IC and the Four Internal N-channel MOSFETs. Connect directly to the power ground plane.", 23 GNDD (power) "Power Ground for the IC and the Four Internal N-channel MOSFETs. Connect directly to the power ground plane.", 24 GNDD (power) "Power Ground for the IC and the Four Internal N-channel MOSFETs. Connect directly to the power ground plane."

## LTC3425EUH#PBF
designator U?
5 A, 8 MHz, 4-Phase Synchronous Step-Up DC/DC Converter, 32-pin QFN (UH-32), -40 to 85 degC, Pb-Free; Manufacturer: Linear Technology; PartNumber: LTC3425EUH#PBF; Number of Outputs: 1; PackageReference: UH-32; PackageDescription: 32-Pin Plastic QFN, Body 5 x 5 mm, Pitch 0.5 mm; Supplier 1: Digi-Key; Supplier Part Number 1: LTC3425EUH#PBF-ND; RoHS: TRUE; Code_JEDEC: MO-220
footprint LT-UH-32_N (QFN, 32-Leads, Body 5.1x5.1mm, Pitch 0.5mm, Thermal Pad 3.45X3.45mm, IPC Medium Density)
footprint LT-UH-32_L (QFN, 32-Leads, Body 5.1x5.1mm, Pitch 0.5mm, Thermal Pad 3.45X3.45mm, IPC High Density)
footprint LT-UH-32_M (QFN, 32-Leads, Body 5.1x5.1mm, Pitch 0.5mm, Thermal Pad 3.45X3.45mm, IPC Low Density)
part A pins: 3 SWA "Switch Pins. Connect inductors here. Minimize trace length to keep EMI to a minimum. For discontinuous inductor current, a controlled impedance is internally connected from SW to VIN to minimize EMI. For applications where (See Datasheet)", 4 VOUTA (power) "Output of the Four Synchronous Rectifiers. Connect output filter capacitors to these pins. Connect one low ESR ceramic capacitor directly from each pin to the ground plane.", 5 VOUTB (power) "Output of the Four Synchronous Rectifiers. Connect output filter capacitors to these pins. Connect one low ESR ceramic capacitor directly from each pin to the ground plane.", 6 SWB "Switch Pins. Connect inductors here. Minimize trace length to keep EMI to a minimum. For discontinuous inductor current, a controlled impedance is internally connected from SW to VIN to minimize EMI. For applications where (See Datasheet)", 9 REFEN (in) "Pull this pin above 1.4V to enable the REF output. Grounding this pin turns the REF output off to reduce quiescent current.", 10 VOUTS (in) "VOUT Sense Pin. Connect VOUTS directly to an output filter capacitor. The top of the feedback divider network should also be tied to this point.", 12 FB (in) "Feedback Pin. Connect FB to a resistor divider, keeping the trace as short as possible. The output voltage can be adjusted according to the following formula: VOUT = 1.22 x (R1+R2)/R1,where R1 is connected from FB(See Datasheet)", 13 COMP "Error Amp Output. A frequency compensation network is connected from this pin to ground to compensate the loop. See the section Closing the Feedback Loop for guidelines.", 14 BURST (in) "Burst Mode Threshold Adjust Pin. A resistor/capacitor combination from this pin to ground programs the average load current at which automatic Burst Mode operation is entered. For manual control of Burst Mode operation, (See Datasheet)", 15 REFOUT (out) "Buffered 1.22V Reference Output. This pin can source up to 100uA and sink up to 10uA (only active when REFEN is pulled high). This pin must be decoupled with a 0.1uF capacitor for stability.", 16 PGOOD (oc) "Open-Drain Output of the Power Good Comparator. This pin will go low when the output voltage drops 11% below its regulated value. Maximum sink current should be limited to 10mA.", 19 SWC "Switch Pins. Connect inductors here. Minimize trace length to keep EMI to a minimum. For discontinuous inductor current, a controlled impedance is internally connected from SW to VIN to minimize EMI. For applications where (See Datasheet)", 20 VOUTC (power) "Output of the Four Synchronous Rectifiers. Connect output filter capacitors to these pins. Connect one low ESR ceramic capacitor directly from each pin to the ground plane.", 21 VOUTD (power) "Output of the Four Synchronous Rectifiers. Connect output filter capacitors to these pins. Connect one low ESR ceramic capacitor directly from each pin to the ground plane.", 22 SWD "Switch Pins. Connect inductors here. Minimize trace length to keep EMI to a minimum. For discontinuous inductor current, a controlled impedance is internally connected from SW to VIN to minimize EMI. For applications where (See Datasheet)", 25 SYNCOUT (out) "Sync Output Pin. A clock is provided at the oscillator frequency, but phase-shifted 180 degrees to allow for synchronizing two devices for an 8-phase converter.", 26 CCM (in) "This pin is used to select forced continuous conduction mode. Normally this pin is grounded to allow CCM or DCM operation. To force continuous conduction mode, tie this pin to VOUT. In this mode, a reverse current of up to (See Datasheet)", 27 ILIM (in) "Current Limit Adjust Pin. Connect a resistor from ILIM to SGND to set the peak current limit threshold for the N-channel MOSFETs, according to the formula (note that this is the peak current in each inductor): (See Datasheet)", 28 RT "Connect a resistor from RT to SGND (or SGND plane) to program the oscillator frequency, according to the formula:fOSC=60/RT, fSWITCH=fOSC/4=15/RT,where fOSC is in MHz and RT is in kohm.", 29 VIN (power) "Input Supply Pin. Connect this to the input supply and decouple with 1uF minimum low ESR ceramic capacitor.", 30 SYNCIN (in) "Oscillator Synchronization Pin. A clock pulse width of 100ns minimum is required to synchronize the internal oscillator. If not used, SYNCIN should be grounded. The typical logic threshold for this input is:VOUT/2,The SYNCIN (See Datasheet)", 31 ~{SHDN} (in) "Shutdown Pin. Grounding S\H\D\N\ (or pulling it below 0.25V) shuts down the IC. Pull pin up to >=1V to enable. Once enabled, the pin only needs to be >=0.65V.", 32 SS (in) "Soft-Start pin. Connect a capacitor from this pin to ground to set the soft-start time, according to the formula: t(ms) = CSS (uF) x 320,The nominal soft-start charging current is 2.5uA. The active range of SS is from 0.8(See Datasheet)", 33 EP (power) "Additional Power Ground for the IC. Connect directly to the power ground plane."
part B pins: 1 GNDA (power) "Power Ground for the IC and the Four Internal N-channel MOSFETs. Connect directly to the power ground plane.", 2 GNDA (power) "Power Ground for the IC and the Four Internal N-channel MOSFETs. Connect directly to the power ground plane.", 7 GNDB (power) "Power Ground for the IC and the Four Internal N-channel MOSFETs. Connect directly to the power ground plane.", 8 GNDB (power) "Power Ground for the IC and the Four Internal N-channel MOSFETs. Connect directly to the power ground plane.", 11 SGND (power) "Signal Ground Pin. Connect to ground plane, near the feedback divider resistor.", 17 GNDC (power) "Power Ground for the IC and the Four Internal N-channel MOSFETs. Connect directly to the power ground plane.", 18 GNDC (power) "Power Ground for the IC and the Four Internal N-channel MOSFETs. Connect directly to the power ground plane.", 23 GNDD (power) "Power Ground for the IC and the Four Internal N-channel MOSFETs. Connect directly to the power ground plane.", 24 GNDD (power) "Power Ground for the IC and the Four Internal N-channel MOSFETs. Connect directly to the power ground plane."